# EAGLE library part MCP3008 (library rev1_lbr)
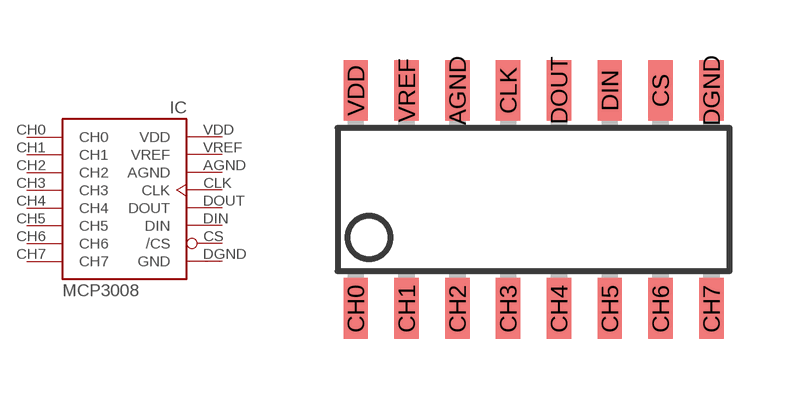
[diagram p1: symbol with the pads of MCP3008; footprint MCP3008]

Designator prefix IC

## MCP3008  [MCP3008]
AGND  AGND  pwr
CH0  CH0  in
CH1  CH1  in
CH2  CH2  in
CH3  CH3  in
CH4  CH4  in
CH5  CH5  in
CH6  CH6  in
CH7  CH7  in
CLK  CLK  in
CS  /CS  in
DGND  GND  pwr
DIN  DIN  in
DOUT  DOUT  out
VDD  VDD  pwr
VREF  VREF  in

## Footprint MCP3008 (pad centres in mm)
Small Outline Integrated Circuit
smd 0.61 x 1.524: AGND -1.905,2.667; CH0 -4.445,-2.794; CH1 -3.175,-2.794; CH2 -1.905,-2.794; CH3 -0.635,-2.794; CH4 0.635,-2.794; CH5 1.905,-2.794; CH6 3.175,-2.794; CH7 4.445,-2.794; CLK -0.635,2.667; CS 3.175,2.667; DGND 4.445,2.667; DIN 1.905,2.667; DOUT 0.635,2.667; VDD -4.445,2.667; VREF -3.175,2.667